# Altium footprint library HDSOP-16.PcbLib: 1 footprints
Each footprint in its own frame and in the unit in brackets; x right, y up, seen from the top. Pads: shape width x height; smd on the part's side, far side on the other; paste and mask are expansions set on the pad; w line width, h text height; cw(c..) or ccw(c..) is an arc to the next point about the centre after c.
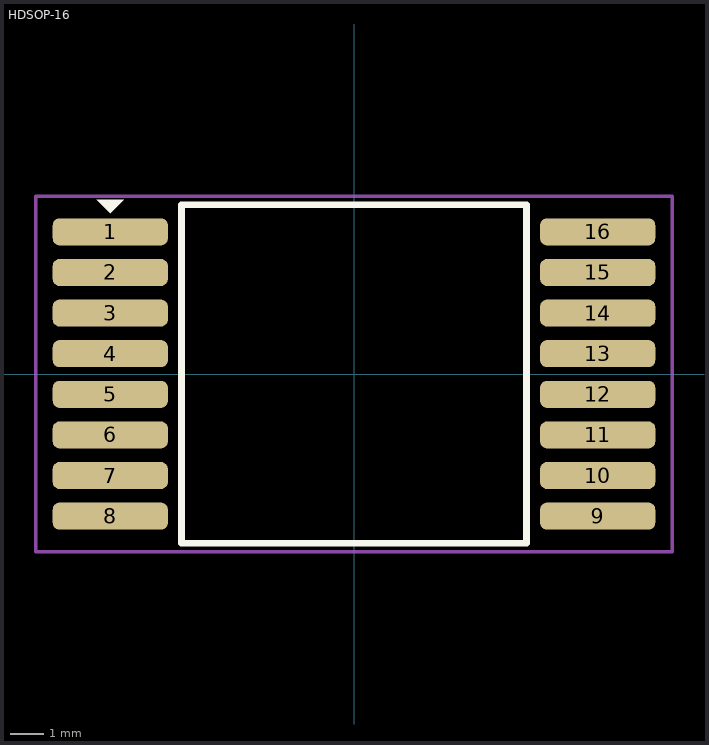
[diagram p0: the footprint, top view; thin cyan lines are the x and y axes]

## HDSOP-16 [mm]
pads (16):
  rrect50% 3.4x0.8 smd: 1(-7.2,4.2) 2(-7.2,3) 3(-7.2,1.8) 4(-7.2,0.6) 5(-7.2,-0.6) 6(-7.2,-1.8) 7(-7.2,-3) 8(-7.2,-4.2) 9(7.2,-4.2) 10(7.2,-3) 11(7.2,-1.8) 12(7.2,-0.6) 13(7.2,0.6) 14(7.2,1.8) 15(7.2,3) 16(7.2,4.2)
Top Overlay:
  region: -7.6,5.15 -6.8,5.15 -7.2,4.75
  lines w0.2: -5.1,-5 -5.1,5 5.1,5 5.1,-5 -5.1,-5
Top Courtyard:
  lines w0.1: -9.4,-5.254 -9.4,5.254 9.4,5.254 9.4,-5.254 -5.1,-5.254 -9.4,-5.254
3D body "PG-HDSOP-16-1_Z8B00189145_V01_3D.stp": height 2.2, standoff -0.16, extent -7.5,-4.95 7.5,4.95